# Altium schematic symbol library sym-0017.SchLib: 1 symbol
Pins are listed as number, name and electrical type; pins without a type are passive.

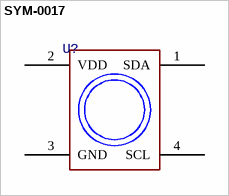
[diagram p0: symbol SYM-0017]

## SYM-0017
designator U?
MLX90640
pins: 1 SDA "I2C serial data (input / output)", 2 VDD "Positive supply", 3 GND "Negative supply (Ground)", 4 SCL "I2C serial clock (input only)"